# Altium schematic symbol library LQW03AW10NJ00D.SchLib: 1 symbol
Pins are listed as number, name and electrical type; pins without a type are passive.

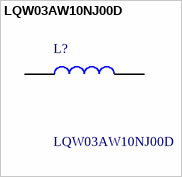
[diagram p0: symbol LQW03AW10NJ00D]

## LQW03AW10NJ00D
designator L?
LQW03AW_00 Series Inductor 10nH +/-5% 0201 (0603); Manufacturer_Name: Murata Electronics; Geometry.Height: 0.45mm; Manufacturer_Part_Number: LQW03AW10NJ00D; Mouser Part Number: 81-LQW03AW10NJ00D; Mouser Price/Stock: https://www.mouser.co.uk/ProductDetail/Murata-Electronics/LQW03AW10NJ00D?qs=5lbl9CW7Yx%2FLHUKnOlvV8g%3D%3D; Arrow Part Number: LQW03AW10NJ00D; Arrow Price/Stock: https://www.arrow.com/en/products/lqw03aw10nj00d/murata-manufacturing?region=nac; Datasheet Link: https://search.murata.co.jp/Ceramy/image/img/P02/JELF243A-0109.pdf
footprint LQW03AW10NJ00D
pins: 1, 2